# Altium footprint library Clock.PcbLib: 4 footprints
Each footprint in its own frame and in the unit in brackets; x right, y up, seen from the top. Pads: shape width x height; smd on the part's side, far side on the other; paste and mask are expansions set on the pad; w line width, h text height; cw(c..) or ccw(c..) is an arc to the next point about the centre after c.
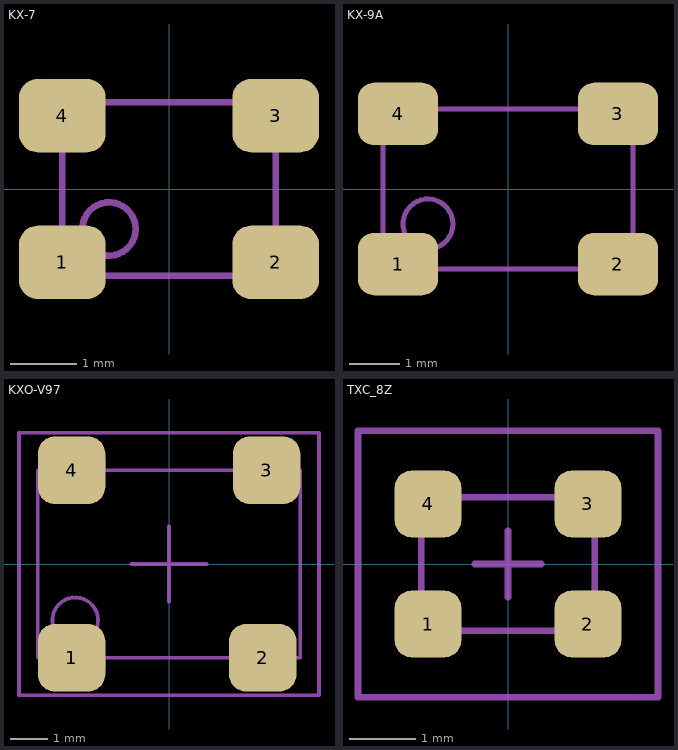
[diagram p0: the footprints below, top view; thin cyan lines are the x and y axes]

## KX-7 [mm] "Geyer Quartz Crystal SMD"
pads (4):
  rrect50% 1.3x1.1 smd: 1(-1.6,-1.1) 2(1.6,-1.1) 3(1.6,1.1) 4(-1.6,1.1)
Mechanical 13:
  circle w0.1: c-0.9,-0.6 r0.4
  lines w0.1: -1.6,-1.3 -1.6,1.3 1.6,1.3 1.6,-1.3 -1.6,-1.3
3D body: height 0.81, standoff 0, extent -1.607,-1.25 1.607,1.25

## KX-9A [mm] "Geyer Quartz Crystal SMD"
pads (4):
  rrect50% 1.6x1.25 smd: 1(-2.2,-1.5) 2(2.2,-1.5) 3(2.2,1.5) 4(-2.2,1.5)
Mechanical 13:
  circle w0.1: c-1.6,-0.7 r0.5
  lines w0.1: -2.5,-1.6 -2.5,1.6 2.5,1.6 2.5,-1.6 -2.5,-1.6
3D body: height 1.01, standoff 0, extent -2.5,-1.6 2.5,1.6

## KXO-V97 [mm] "Clock oscillator QSMD7.0x5.0x1.8mm"
height 1.8
pads (4):
  rrect50% 1.8x1.8 smd: 1(-2.6,-2.5) 2(2.5,-2.5) 3(2.6,2.5) 4(-2.6,2.5)
Mechanical 4:
  text ".Designator" at -2.032,-0.254 h1
Mechanical 13:
  circle w0.1: c-2.5,-1.5 r0.608
  lines w0.1: -3.25,-2.5 -3.25,-2.75 -1.75,-2.75 -1.75,-2.5 ; -3.25,2.5 -3.25,2.75 -1.75,2.75 -1.75,2.5 ; 1.75,-2.5 1.75,-2.75 3.25,-2.75 3.25,-2.5 ; 1.75,2.5 1.75,2.75 3.25,2.75 3.25,2.5 ; -3.5,-2.5 -3.5,2.5 -1.5,2.5 3.5,2.5 3.5,-2.5 -3.5,-2.5
Mechanical 15:
  lines w0.1: -1,0 1,0 ; 0,-1 0,1 ; -4,-3.5 -4,3.5 4,3.5 4,-3.5 -4,-3.5
3D body: height 1.3, standoff 0, extent -3.5,-2.54 3.5,2.54

## TXC_8Z [mm]
pads (4):
  rrect50% 1x1 smd: 1(-1.2,-0.9) 2(1.2,-0.9) 3(1.2,0.9) 4(-1.2,0.9)
Mechanical 13:
  lines w0.1: -1.3,-1 -1.3,1 1.3,1 1.3,-1 -1.3,-1
Mechanical 15:
  lines w0.1: -0.5,0 0.5,0 ; 0,-0.5 0,0.5 ; -2.25,-2 2.25,-2 2.25,2 -2.25,2 -2.25,-2
3D body: height 0.6, standoff 0.4, extent -1.2,-0.9 1.2,0.9
3D body: height 0.4, standoff 0.3, extent -1.3,-1 1.3,1
3D body: height 0.3, standoff 0, extent -1.3,-1 1.3,1
3D body: height 0.7, standoff 0.6, extent -1,-0.7 -0.6,-0.3